# EAGLE library part LT3045EMSE#PBF (library LT3045EMSE#PBF)
12-LEAD PLASTIC MSOP Source: Datasheet <http://cds.linear.com/docs/en/datasheet/3045f.pdf>
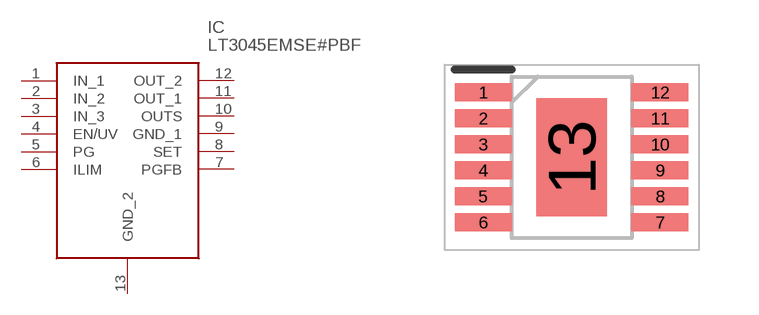
[diagram p0: symbol with the pads of SOP65P490X110-13N; footprint SOP65P490X110-13N]

Designator prefix IC

## LT3045EMSE#PBF (Description: 12-LEAD PLASTIC MSOP; Height: 1.1mm; Manufacturer_Name: Analog Devices; Manufacturer_Part_Number: LT3045EMSE#PBF; Mouser_Part_Number: 584-LT3045EMSE#PBF; Mouser_Price-Stock: https://www.mouser.co.uk/ProductDetail/Analog-Devices/LT3045EMSEPBF?qs=oahfZPh6IALaLGJLx0PWbw%3D%3D)  [SOP65P490X110-13N]
1  IN_1
2  IN_2
3  IN_3
4  EN/UV
5  PG
6  ILIM
7  PGFB
8  SET
9  GND_1
10  OUTS
11  OUT_1
12  OUT_2
13  GND_2

## Footprint SOP65P490X110-13N (pad centres in mm)
12-Lead Plastic MSOP
smd 1.425 x 0.45: 1 -2.212,1.625; 2 -2.212,0.975; 3 -2.212,0.325; 4 -2.212,-0.325; 5 -2.212,-0.975; 6 -2.212,-1.625; 7 2.212,-1.625; 8 2.212,-0.975; 9 2.212,-0.325; 10 2.212,0.325; 11 2.212,0.975; 12 2.212,1.625
smd 1.753 x 2.947: 13 0,0